# EAGLE library part DRV8313PWP (library DRV8313PWP)
2.5A Three Phase Brushless DC Motor Driver (PWM Ctrl) 28-HTSSOP -40 to 85
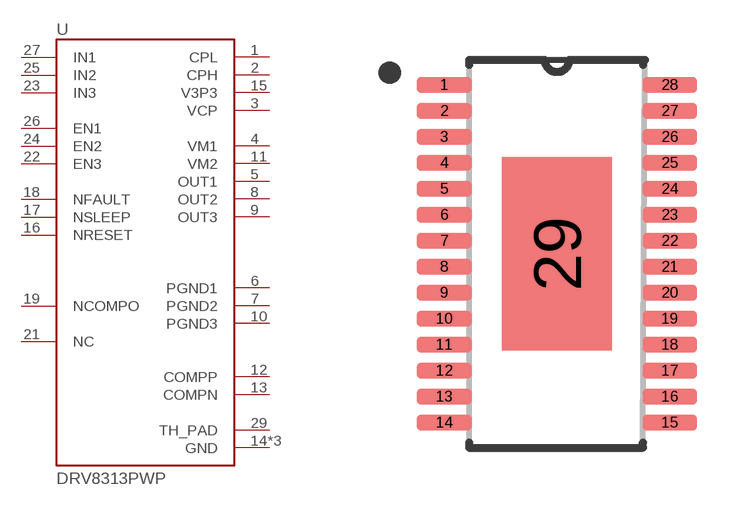
[diagram p0: symbol with the pads of SOP28P65_970X640X120L60X24T483X275N; footprint SOP28P65_970X640X120L60X24T483X275N]

Designator prefix U

## DRV8313PWP (Description: 2.5A Three Phase Brushless DC Motor Driver _PWM Ctrl_ 28-HTSSOP -40 to 85; Digi-Key_Part_Number: 296-35540-5-ND; Digi-Key_Purchase_URL: https://www.digikey.com.cn/product-detail/zh/texas-instruments/DRV8313PWP/296-35540-5-ND/3790947?utm_source=snapeda&utm_medium=aggregator&utm_campaign=symbol; MF: Texas Instruments; MP: DRV8313PWP; Package: HTSSOP-28 Texas Instruments)  [SOP28P65_970X640X120L60X24T483X275N]
1  CPL  pwr
2  CPH  pwr
3  VCP  pwr
4  VM1  pwr
5  OUT1  out
6  PGND1  pwr
7  PGND2  pwr
8  OUT2  out
9  OUT3  out
10  PGND3  pwr
11  VM2  pwr
12  COMPP  in
13  COMPN  in
14  GND  pwr
15  V3P3  pwr
16  NRESET  in
17  NSLEEP  in
18  NFAULT  oc
19  NCOMPO  oc
20  GND  pwr
21  NC  nc
22  EN3  in
23  IN3  in
24  EN2  in
25  IN2  in
26  EN1  in
27  IN1  in
28  GND  pwr
29  TH_PAD  pwr

## Footprint SOP28P65_970X640X120L60X24T483X275N (pad centres in mm)
smd 1.37 x 0.39: 1 -2.82,4.225; 2 -2.82,3.575; 3 -2.82,2.925; 4 -2.82,2.275; 5 -2.82,1.625; 6 -2.82,0.975; 7 -2.82,0.325; 8 -2.82,-0.325; 9 -2.82,-0.975; 10 -2.82,-1.625; 11 -2.82,-2.275; 12 -2.82,-2.925; 13 -2.82,-3.575; 14 -2.82,-4.225; 15 2.82,-4.225; 16 2.82,-3.575; 17 2.82,-2.925; 18 2.82,-2.275; 19 2.82,-1.625; 20 2.82,-0.975; 21 2.82,-0.325; 22 2.82,0.325; 23 2.82,0.975; 24 2.82,1.625; 25 2.82,2.275; 26 2.82,2.925; 27 2.82,3.575; 28 2.82,4.225
smd 2.75 x 4.83: 29 0,0